# Altium integrated library TI_Logic_Flip-Flop,Latch,Register.IntLib: 2598 symbols (part 32 of 122)
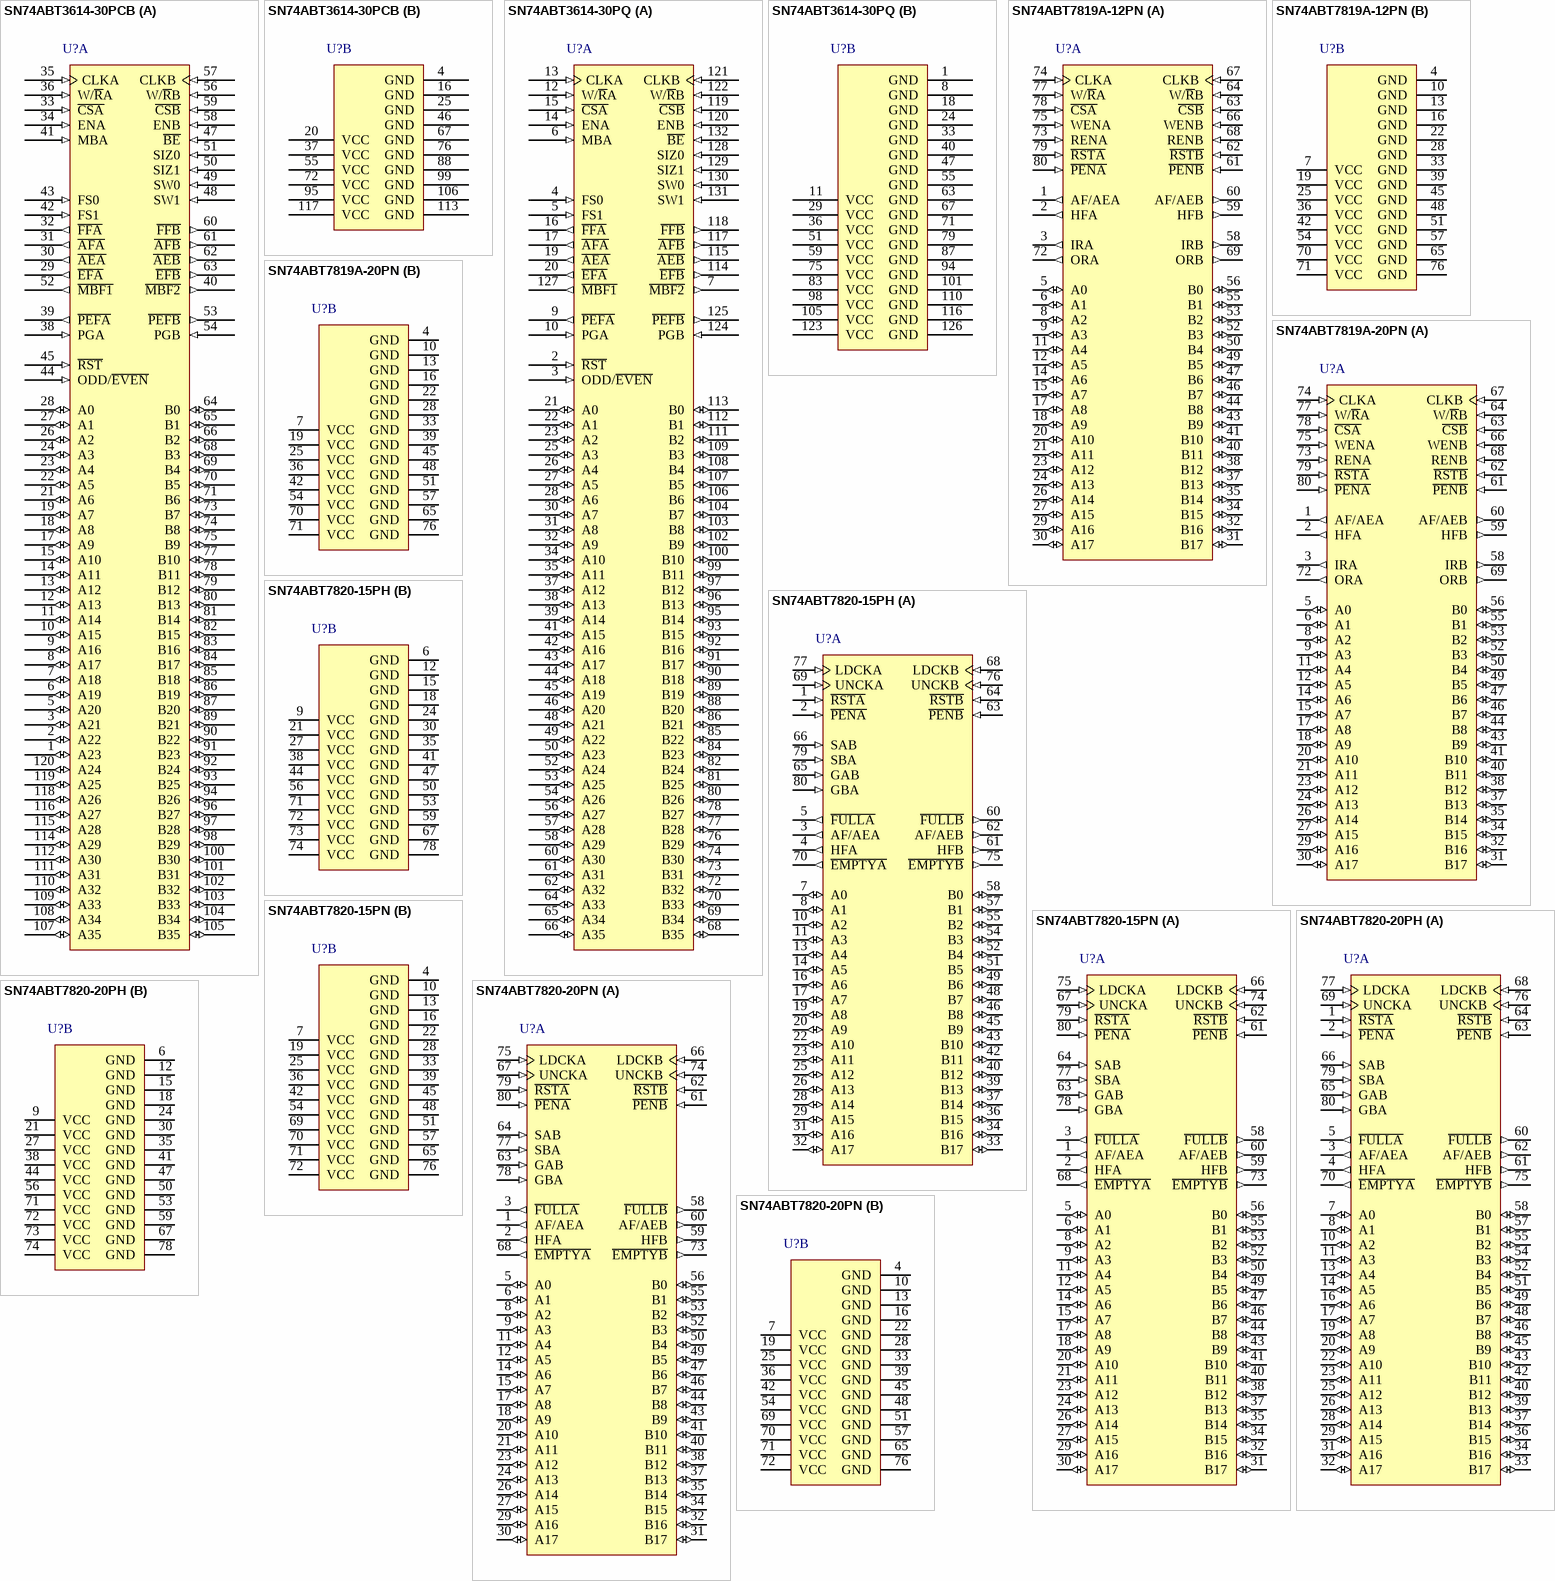
[diagram p170: symbols SN74ABT3614-30PCB to SN74ABT7820-20PN]

## SN74ABT3614-30PCB
designator U?
64 x 36 x 2 bidirectional synchronous FIFO memory, PCB0120A, JEDEC TRAY (5+1); Generic Part Number: SN74ABT3614; Manufacturer: Texas Instruments; PartNumber: SN74ABT3614-30PCB; Vcc range(V): 4.5 to 5.5; Fmax(MHz): 67; Voltage Nodes(V): 5; Sync/Async: S; Rating: Catalog; Output Drive(mA): -0.5; DatasheetVersion: SCBS126H; PackageReference: PCB0120A; Depth: 64; Width: 36; Code_JEDEC: MS-026; ComponentLink1Description: Manufacturer URL; ComponentLink1URL: http://www.ti.com/; ComponentLink2Description: Datasheet; ComponentLink2URL: http://www.ti.com/lit/ds/symlink/sn74abt3614.pdf; ComponentLink3Description: Package Specification; ComponentLink3URL: http://www.ti.com/lit/ml/mhtq004a/mhtq004a.pdf
footprint PCB0120A_N (QFP, 120-Leads, Body 14x14mm, Pitch 0.4mm, IPC Medium Density)
footprint PCB0120A_M (QFP, 120-Leads, Body 14x14mm, Pitch 0.4mm, IPC Low Density)
footprint PCB0120A_L (QFP, 120-Leads, Body 14x14mm, Pitch 0.4mm, IPC High Density)
part A pins: 1 A23 (io) "Port-A data. The 36-bit bidirectional data port for side A.", 2 A22 (io) "Port-A data. The 36-bit bidirectional data port for side A.", 3 A21 (io) "Port-A data. The 36-bit bidirectional data port for side A.", 5 A20 (io) "Port-A data. The 36-bit bidirectional data port for side A.", 6 A19 (io) "Port-A data. The 36-bit bidirectional data port for side A.", 7 A18 (io) "Port-A data. The 36-bit bidirectional data port for side A.", 8 A17 (io) "Port-A data. The 36-bit bidirectional data port for side A.", 9 A16 (io) "Port-A data. The 36-bit bidirectional data port for side A.", 10 A15 (io) "Port-A data. The 36-bit bidirectional data port for side A.", 11 A14 (io) "Port-A data. The 36-bit bidirectional data port for side A.", 12 A13 (io) "Port-A data. The 36-bit bidirectional data port for side A.", 13 A12 (io) "Port-A data. The 36-bit bidirectional data port for side A.", 14 A11 (io) "Port-A data. The 36-bit bidirectional data port for side A.", 15 A10 (io) "Port-A data. The 36-bit bidirectional data port for side A.", 17 A9 (io) "Port-A data. The 36-bit bidirectional data port for side A.", 18 A8 (io) "Port-A data. The 36-bit bidirectional data port for side A.", 19 A7 (io) "Port-A data. The 36-bit bidirectional data port for side A.", 21 A6 (io) "Port-A data. The 36-bit bidirectional data port for side A.", 22 A5 (io) "Port-A data. The 36-bit bidirectional data port for side A.", 23 A4 (io) "Port-A data. The 36-bit bidirectional data port for side A.", 24 A3 (io) "Port-A data. The 36-bit bidirectional data port for side A.", 26 A2 (io) "Port-A data. The 36-bit bidirectional data port for side A.", 27 A1 (io) "Port-A data. The 36-bit bidirectional data port for side A.", 28 A0 (io) "Port-A data. The 36-bit bidirectional data port for side A.", 29 ~{EFA} (out) "Port-A empty flag. E\F\A\ is synchronized to the low-to-high transition of CLKA. When E\F\A\ is low, FIFO2 is empty and reads from its memory are disabled. Data can be read from FIFO2 to the output register when E\F\A\ is (See Datasheet)", 30 ~{AEA} (out) "Port-A almost-empty flag. Programmable flag synchronized to CLKA. A\E\A\ is low when the number of 36-bit words in FIFO2 is less than or equal to the value in offset register X.", 31 ~{AFA} (out) "Port-A almost-full flag. Programmable flag synchronized to CLKA. A\F\A\ is low when the number of 36-bit empty locations in FIFO1 is less than or equal to the value in offset register X.", 32 ~{FFA} (out) "Port-A full flag. F\F\A\ is synchronized to the low-to-high transition of CLKA. When F\F\A\ is low, FIFO1 is full and writes to its memory are disabled. F\F\A\ is forced low when the device is reset and is set high by the (See Datasheet)", 33 ~{CSA} (in) "Port-A chip select. C\S\A\ must be low to enable a low-to-high transition of CLKA to read or write data on port A. The A0-A35 outputs are in the high-impedance state when C\S\A\ is high.", 34 ENA (in) "Port-A enable. ENA must be high to enable a low-to-high transition of CLKA to read or write data on port A.", 35 CLKA (in) "Port-A clock. CLKA is a continuous clock that synchronizes all data transfers through port A and can be asynchronous or coincident to CLKB. E\F\A\, F\F\A\, A\F\A\, and A\E\A\ are synchronized to the low-to-high transition of (See Datasheet)", 36 W/~{R}A (in) "Port-A write/read select. W/R\A high selects a write operation and a low selects a read operation on port A for a low-to-high transition of CLKA. The A0-A35 outputs are in the high-impedance state when W/R\A is high.", 38 PGA (in) "Port-A parity generation. Parity is generated for data reads from port A when PGA is high. The type of parity generated is selected by the state of the ODD/E\V\E\N\ input. Bytes are organized as A0-A8, A9-A17, A18-A26, and (See Datasheet)", 39 ~{PEFA} (out) "Port-A parity-error flag. When any byte applied to terminals A0-A35 fails parity, P\E\F\A\ is low. Bytes are organized as A0-A8, A9-A17, A18-A26, and A27-A35, with the most-significant bit of each byte serving as the parity (See Datasheet)", 40 ~{MBF2} (out) "Mail2 register flag. M\B\F\2\ is set low by the low-to-high transition of CLKB that writes data to the mail2 register. Writes to the mail2 register are inhibited while M\B\F\2\ is low. M\B\F\2\ is set high by a low-to-high (See Datasheet)", 41 MBA (in) "Port-A mailbox select. A high level on MBA chooses a mailbox register for a port-A read or write operation. When the A0-A35 outputs are active, a high level on MBA selects data from the mail2 register for output and a low (See Datasheet)", 42 FS1 (in) "Flag offset selects. The low-to-high transition of R\S\T\ latches the values of FS0 and FS1, which selects one of four preset values for the A\E\ flag and A\F\ flag offset.", 43 FS0 (in) "Flag offset selects. The low-to-high transition of R\S\T\ latches the values of FS0 and FS1, which selects one of four preset values for the A\E\ flag and A\F\ flag offset.", 44 ODD/~{EVEN} (in) "Odd/even parity select. Odd parity is checked on each port when ODD/E\V\E\N\ is high and even parity is checked when ODD/E\V\E\N\ is low. ODD/E\V\E\N\ also selects the type of parity generated for each port if parity (See Datasheet)", 45 ~{RST} (in) "Reset. To reset the device, four low-to-high transitions of CLKA and four low-to-high transitions of CLKB must occur while R\S\T\ is low. This sets the A\F\A\, A\F\B\, M\B\F\1\, and M\B\F\2\ flags high and the E\F\A\, (See Datasheet)", 47 ~{BE} (in) "Big-endian select. Selects the bytes on port B used during byte or word data transfer. A low on B\E\ selects the most-significant bytes on B0-B35 for use, and a high selects the least-significant bytes.", 48 SW1 (in) "Port-B byte-swap selects. At the beginning of each long word transfer, one of four modes of byte-order swapping is selected by SW0 and SW1. The four modes are no swap, byte swap, word swap, and byte-word swap. Byte-order (See Datasheet)", 49 SW0 (in) "Port-B byte-swap selects. At the beginning of each long word transfer, one of four modes of byte-order swapping is selected by SW0 and SW1. The four modes are no swap, byte swap, word swap, and byte-word swap. Byte-order (See Datasheet)", 50 SIZ1 (in) "Port-B bus-size selects. The low-to-high transition of CLKB latches the states of SIZ0, SIZ1, and B\E\, and the following low-to-high transition of CLKB implements the latched states as a port-B bus size. Port-B bus sizes (See Datasheet)", 51 SIZ0 (in) "Port-B bus-size selects. The low-to-high transition of CLKB latches the states of SIZ0, SIZ1, and B\E\, and the following low-to-high transition of CLKB implements the latched states as a port-B bus size. Port-B bus sizes (See Datasheet)", 52 ~{MBF1} (out) "Mail1 register flag. M\B\F\1\ is set low by the low-to-high transition of CLKA that writes data to the mail1 register. Writes to the mail1 register are inhibited while M\B\F\1\ is low. M\B\F\1\ is set high by a low-to-high (See Datasheet)", 53 ~{PEFB} (out) "Port-B parity-error flag. When any valid byte applied to terminals B0-B35 fails parity, P\E\F\B\ is low. Bytes are organized as B0-B8, B9-B17, B18-B26, and B27-B35, with the most-significant bit of each byte serving as the (See Datasheet)", 54 PGB (in) "Port-B parity generation. Parity is generated for data reads from port B when PGB is high. The type of parity generated is selected by the state of the ODD/E\V\E\N\ input. Bytes are organized as B0-B8, B9-B17, B18-B26, and (See Datasheet)", 56 W/~{R}B (in) "Port-B write/read select. W/R\B high selects a write operation and a low selects a read operation on port B for a low-to-high transition of CLKB. The B0-B35 outputs are in the high-impedance state when W/R\B is high.", 57 CLKB (in) "Port-B clock. CLKB is a continuous clock that synchronizes all data transfers through port B and can be asynchronous or coincident to CLKA. Port-B byte swapping and data-port-sizing operations are also synchronous to the (See Datasheet)", 58 ENB (in) "Port-B enable. ENB must be high to enable a low-to-high transition of CLKB to read or write data on port B.", 59 ~{CSB} (in) "Port-B chip select. C\S\B\ must be low to enable a low-to-high transition of CLKB to read or write data on port B. The B0-B35 outputs are in the high-impedance state when C\S\B\ is high.", 60 ~{FFB} (out) "Port-B full flag. F\F\B\ is synchronized to the low-to-high transition of CLKB. When F\F\B\ is low, FIFO2 is full and writes to its memory are disabled. F\F\B\ is forced low when the device is reset and is set high by the (See Datasheet)", 61 ~{AFB} (out) "Port-B almost-full flag. Programmable flag synchronized to CLKB. A\F\B\ is low when the number of 36-bit empty locations in FIFO2 is less than or equal to the value in offset register X.", 62 ~{AEB} (out) "Port-B almost-empty flag. Programmable flag synchronized to CLKB. A\E\B\ is low when the number of 36-bit words in FIFO1 is less than or equal to the value in offset register X.", 63 ~{EFB} (out) "Port-B empty flag. E\F\B\ is synchronized to the low-to-high transition of CLKB. When E\F\B\ is low, FIFO1 is empty and reads from its memory are disabled. Data can be read from FIFO1 to the output register when E\F\B\ is (See Datasheet)", 64 B0 (io) "Port-B data. The 36-bit bidirectional data port for side B.", 65 B1 (io) "Port-B data. The 36-bit bidirectional data port for side B.", 66 B2 (io) "Port-B data. The 36-bit bidirectional data port for side B.", 68 B3 (io) "Port-B data. The 36-bit bidirectional data port for side B.", 69 B4 (io) "Port-B data. The 36-bit bidirectional data port for side B.", 70 B5 (io) "Port-B data. The 36-bit bidirectional data port for side B.", 71 B6 (io) "Port-B data. The 36-bit bidirectional data port for side B.", 73 B7 (io) "Port-B data. The 36-bit bidirectional data port for side B.", 74 B8 (io) "Port-B data. The 36-bit bidirectional data port for side B.", 75 B9 (io) "Port-B data. The 36-bit bidirectional data port for side B.", 77 B10 (io) "Port-B data. The 36-bit bidirectional data port for side B.", 78 B11 (io) "Port-B data. The 36-bit bidirectional data port for side B.", 79 B12 (io) "Port-B data. The 36-bit bidirectional data port for side B.", 80 B13 (io) "Port-B data. The 36-bit bidirectional data port for side B.", 81 B14 (io) "Port-B data. The 36-bit bidirectional data port for side B.", 82 B15 (io) "Port-B data. The 36-bit bidirectional data port for side B.", 83 B16 (io) "Port-B data. The 36-bit bidirectional data port for side B.", 84 B17 (io) "Port-B data. The 36-bit bidirectional data port for side B.", 85 B18 (io) "Port-B data. The 36-bit bidirectional data port for side B.", 86 B19 (io) "Port-B data. The 36-bit bidirectional data port for side B.", 87 B20 (io) "Port-B data. The 36-bit bidirectional data port for side B.", 89 B21 (io) "Port-B data. The 36-bit bidirectional data port for side B.", 90 B22 (io) "Port-B data. The 36-bit bidirectional data port for side B.", 91 B23 (io) "Port-B data. The 36-bit bidirectional data port for side B.", 92 B24 (io) "Port-B data. The 36-bit bidirectional data port for side B.", 93 B25 (io) "Port-B data. The 36-bit bidirectional data port for side B.", 94 B26 (io) "Port-B data. The 36-bit bidirectional data port for side B.", 96 B27 (io) "Port-B data. The 36-bit bidirectional data port for side B.", 97 B28 (io) "Port-B data. The 36-bit bidirectional data port for side B.", 98 B29 (io) "Port-B data. The 36-bit bidirectional data port for side B.", 100 B30 (io) "Port-B data. The 36-bit bidirectional data port for side B.", 101 B31 (io) "Port-B data. The 36-bit bidirectional data port for side B.", 102 B32 (io) "Port-B data. The 36-bit bidirectional data port for side B.", 103 B33 (io) "Port-B data. The 36-bit bidirectional data port for side B.", 104 B34 (io) "Port-B data. The 36-bit bidirectional data port for side B.", 105 B35 (io) "Port-B data. The 36-bit bidirectional data port for side B.", 107 A35 (io) "Port-A data. The 36-bit bidirectional data port for side A.", 108 A34 (io) "Port-A data. The 36-bit bidirectional data port for side A.", 109 A33 (io) "Port-A data. The 36-bit bidirectional data port for side A.", 110 A32 (io) "Port-A data. The 36-bit bidirectional data port for side A.", 111 A31 (io) "Port-A data. The 36-bit bidirectional data port for side A.", 112 A30 (io) "Port-A data. The 36-bit bidirectional data port for side A.", 114 A29 (io) "Port-A data. The 36-bit bidirectional data port for side A.", 115 A28 (io) "Port-A data. The 36-bit bidirectional data port for side A.", 116 A27 (io) "Port-A data. The 36-bit bidirectional data port for side A.", 118 A26 (io) "Port-A data. The 36-bit bidirectional data port for side A.", 119 A25 (io) "Port-A data. The 36-bit bidirectional data port for side A.", 120 A24 (io) "Port-A data. The 36-bit bidirectional data port for side A."
part B pins: 4 GND (power), 16 GND (power), 20 VCC (power), 25 GND (power), 37 VCC (power), 46 GND (power), 55 VCC (power), 67 GND (power), 72 VCC (power), 76 GND (power), 88 GND (power), 95 VCC (power), 99 GND (power), 106 GND (power), 113 GND (power), 117 VCC (power)

## SN74ABT3614-30PQ
designator U?
64 x 36 x 2 bidirectional synchronous FIFO memory, PQ0132A, JEDEC TRAY (10+1); Generic Part Number: SN74ABT3614; Manufacturer: Texas Instruments; PartNumber: SN74ABT3614-30PQ; Vcc range(V): 4.5 to 5.5; Fmax(MHz): 67; Voltage Nodes(V): 5; Sync/Async: S; Rating: Catalog; Output Drive(mA): -0.5; DatasheetVersion: SCBS126H; PackageReference: PQ0132A; Depth: 64; Width: 36; Code_JEDEC: MO-069; ComponentLink1Description: Manufacturer URL; ComponentLink1URL: http://www.ti.com/; ComponentLink2Description: Datasheet; ComponentLink2URL: http://www.ti.com/lit/ds/symlink/sn74abt3614.pdf; ComponentLink3Description: Package Specification; ComponentLink3URL: http://www.ti.com/lit/ml/mbqf001a/mbqf001a.pdf
footprint PQ0132A_N (QFP, 132-Leads, Body 24.1x24.1mm, Pitch 0.635mm, IPC Medium Density)
footprint PQ0132A_M (QFP, 132-Leads, Body 24.1x24.1mm, Pitch 0.635mm, IPC Low Density)
footprint PQ0132A_L (QFP, 132-Leads, Body 24.1x24.1mm, Pitch 0.635mm, IPC High Density)
part A pins: 2 ~{RST} (in) "Reset. To reset the device, four low-to-high transitions of CLKA and four low-to-high transitions of CLKB must occur while R\S\T\ is low. This sets the A\F\A\, A\F\B\, M\B\F\1\, and M\B\F\2\ flags high and the E\F\A\, (See Datasheet)", 3 ODD/~{EVEN} (in) "Odd/even parity select. Odd parity is checked on each port when ODD/E\V\E\N\ is high and even parity is checked when ODD/E\V\E\N\ is low. ODD/E\V\E\N\ also selects the type of parity generated for each port if parity (See Datasheet)", 4 FS0 (in) "Flag offset selects. The low-to-high transition of R\S\T\ latches the values of FS0 and FS1, which selects one of four preset values for the A\E\ flag and A\F\ flag offset.", 5 FS1 (in) "Flag offset selects. The low-to-high transition of R\S\T\ latches the values of FS0 and FS1, which selects one of four preset values for the A\E\ flag and A\F\ flag offset.", 6 MBA (in) "Port-A mailbox select. A high level on MBA chooses a mailbox register for a port-A read or write operation. When the A0-A35 outputs are active, a high level on MBA selects data from the mail2 register for output and a low (See Datasheet)", 7 ~{MBF2} (out) "Mail2 register flag. M\B\F\2\ is set low by the low-to-high transition of CLKB that writes data to the mail2 register. Writes to the mail2 register are inhibited while M\B\F\2\ is low. M\B\F\2\ is set high by a low-to-high (See Datasheet)", 9 ~{PEFA} (out) "Port-A parity-error flag. When any byte applied to terminals A0-A35 fails parity, P\E\F\A\ is low. Bytes are organized as A0-A8, A9-A17, A18-A26, and A27-A35, with the most-significant bit of each byte serving as the parity (See Datasheet)", 10 PGA (in) "Port-A parity generation. Parity is generated for data reads from port A when PGA is high. The type of parity generated is selected by the state of the ODD/E\V\E\N\ input. Bytes are organized as A0-A8, A9-A17, A18-A26, and (See Datasheet)", 12 W/~{R}A (in) "Port-A write/read select. W/R\A high selects a write operation and a low selects a read operation on port A for a low-to-high transition of CLKA. The A0-A35 outputs are in the high-impedance state when W/R\A is high.", 13 CLKA (in) "Port-A clock. CLKA is a continuous clock that synchronizes all data transfers through port A and can be asynchronous or coincident to CLKB. E\F\A\, F\F\A\, A\F\A\, and A\E\A\ are synchronized to the low-to-high transition of (See Datasheet)", 14 ENA (in) "Port-A enable. ENA must be high to enable a low-to-high transition of CLKA to read or write data on port A.", 15 ~{CSA} (in) "Port-A chip select. C\S\A\ must be low to enable a low-to-high transition of CLKA to read or write data on port A. The A0-A35 outputs are in the high-impedance state when C\S\A\ is high.", 16 ~{FFA} (out) "Port-A full flag. F\F\A\ is synchronized to the low-to-high transition of CLKA. When F\F\A\ is low, FIFO1 is full and writes to its memory are disabled. F\F\A\ is forced low when the device is reset and is set high by the (See Datasheet)", 17 ~{AFA} (out) "Port-A almost-full flag. Programmable flag synchronized to CLKA. A\F\A\ is low when the number of 36-bit empty locations in FIFO1 is less than or equal to the value in offset register X.", 19 ~{AEA} (out) "Port-A almost-empty flag. Programmable flag synchronized to CLKA. A\E\A\ is low when the number of 36-bit words in FIFO2 is less than or equal to the value in offset register X.", 20 ~{EFA} (out) "Port-A empty flag. E\F\A\ is synchronized to the low-to-high transition of CLKA. When E\F\A\ is low, FIFO2 is empty and reads from its memory are disabled. Data can be read from FIFO2 to the output register when E\F\A\ is (See Datasheet)", 21 A0 (io) "Port-A data. The 36-bit bidirectional data port for side A.", 22 A1 (io) "Port-A data. The 36-bit bidirectional data port for side A.", 23 A2 (io) "Port-A data. The 36-bit bidirectional data port for side A.", 25 A3 (io) "Port-A data. The 36-bit bidirectional data port for side A.", 26 A4 (io) "Port-A data. The 36-bit bidirectional data port for side A.", 27 A5 (io) "Port-A data. The 36-bit bidirectional data port for side A.", 28 A6 (io) "Port-A data. The 36-bit bidirectional data port for side A.", 30 A7 (io) "Port-A data. The 36-bit bidirectional data port for side A.", 31 A8 (io) "Port-A data. The 36-bit bidirectional data port for side A.", 32 A9 (io) "Port-A data. The 36-bit bidirectional data port for side A.", 34 A10 (io) "Port-A data. The 36-bit bidirectional data port for side A.", 35 A11 (io) "Port-A data. The 36-bit bidirectional data port for side A.", 37 A12 (io) "Port-A data. The 36-bit bidirectional data port for side A.", 38 A13 (io) "Port-A data. The 36-bit bidirectional data port for side A.", 39 A14 (io) "Port-A data. The 36-bit bidirectional data port for side A.", 41 A15 (io) "Port-A data. The 36-bit bidirectional data port for side A.", 42 A16 (io) "Port-A data. The 36-bit bidirectional data port for side A.", 43 A17 (io) "Port-A data. The 36-bit bidirectional data port for side A.", 44 A18 (io) "Port-A data. The 36-bit bidirectional data port for side A.", 45 A19 (io) "Port-A data. The 36-bit bidirectional data port for side A.", 46 A20 (io) "Port-A data. The 36-bit bidirectional data port for side A.", 48 A21 (io) "Port-A data. The 36-bit bidirectional data port for side A.", 49 A22 (io) "Port-A data. The 36-bit bidirectional data port for side A.", 50 A23 (io) "Port-A data. The 36-bit bidirectional data port for side A.", 52 A24 (io) "Port-A data. The 36-bit bidirectional data port for side A.", 53 A25 (io) "Port-A data. The 36-bit bidirectional data port for side A.", 54 A26 (io) "Port-A data. The 36-bit bidirectional data port for side A.", 56 A27 (io) "Port-A data. The 36-bit bidirectional data port for side A.", 57 A28 (io) "Port-A data. The 36-bit bidirectional data port for side A.", 58 A29 (io) "Port-A data. The 36-bit bidirectional data port for side A.", 60 A30 (io) "Port-A data. The 36-bit bidirectional data port for side A.", 61 A31 (io) "Port-A data. The 36-bit bidirectional data port for side A.", 62 A32 (io) "Port-A data. The 36-bit bidirectional data port for side A.", 64 A33 (io) "Port-A data. The 36-bit bidirectional data port for side A.", 65 A34 (io) "Port-A data. The 36-bit bidirectional data port for side A.", 66 A35 (io) "Port-A data. The 36-bit bidirectional data port for side A.", 68 B35 (io) "Port-B data. The 36-bit bidirectional data port for side B.", 69 B34 (io) "Port-B data. The 36-bit bidirectional data port for side B.", 70 B33 (io) "Port-B data. The 36-bit bidirectional data port for side B.", 72 B32 (io) "Port-B data. The 36-bit bidirectional data port for side B.", 73 B31 (io) "Port-B data. The 36-bit bidirectional data port for side B.", 74 B30 (io) "Port-B data. The 36-bit bidirectional data port for side B.", 76 B29 (io) "Port-B data. The 36-bit bidirectional data port for side B.", 77 B28 (io) "Port-B data. The 36-bit bidirectional data port for side B.", 78 B27 (io) "Port-B data. The 36-bit bidirectional data port for side B.", 80 B26 (io) "Port-B data. The 36-bit bidirectional data port for side B.", 81 B25 (io) "Port-B data. The 36-bit bidirectional data port for side B.", 82 B24 (io) "Port-B data. The 36-bit bidirectional data port for side B.", 84 B23 (io) "Port-B data. The 36-bit bidirectional data port for side B.", 85 B22 (io) "Port-B data. The 36-bit bidirectional data port for side B.", 86 B21 (io) "Port-B data. The 36-bit bidirectional data port for side B.", 88 B20 (io) "Port-B data. The 36-bit bidirectional data port for side B.", 89 B19 (io) "Port-B data. The 36-bit bidirectional data port for side B.", 90 B18 (io) "Port-B data. The 36-bit bidirectional data port for side B.", 91 B17 (io) "Port-B data. The 36-bit bidirectional data port for side B.", 92 B16 (io) "Port-B data. The 36-bit bidirectional data port for side B.", 93 B15 (io) "Port-B data. The 36-bit bidirectional data port for side B.", 95 B14 (io) "Port-B data. The 36-bit bidirectional data port for side B.", 96 B13 (io) "Port-B data. The 36-bit bidirectional data port for side B.", 97 B12 (io) "Port-B data. The 36-bit bidirectional data port for side B.", 99 B11 (io) "Port-B data. The 36-bit bidirectional data port for side B.", 100 B10 (io) "Port-B data. The 36-bit bidirectional data port for side B.", 102 B9 (io) "Port-B data. The 36-bit bidirectional data port for side B.", 103 B8 (io) "Port-B data. The 36-bit bidirectional data port for side B.", 104 B7 (io) "Port-B data. The 36-bit bidirectional data port for side B.", 106 B6 (io) "Port-B data. The 36-bit bidirectional data port for side B.", 107 B5 (io) "Port-B data. The 36-bit bidirectional data port for side B.", 108 B4 (io) "Port-B data. The 36-bit bidirectional data port for side B.", 109 B3 (io) "Port-B data. The 36-bit bidirectional data port for side B.", 111 B2 (io) "Port-B data. The 36-bit bidirectional data port for side B.", 112 B1 (io) "Port-B data. The 36-bit bidirectional data port for side B.", 113 B0 (io) "Port-B data. The 36-bit bidirectional data port for side B.", 114 ~{EFB} (out) "Port-B empty flag. E\F\B\ is synchronized to the low-to-high transition of CLKB. When E\F\B\ is low, FIFO1 is empty and reads from its memory are disabled. Data can be read from FIFO1 to the output register when E\F\B\ is (See Datasheet)", 115 ~{AEB} (out) "Port-B almost-empty flag. Programmable flag synchronized to CLKB. A\E\B\ is low when the number of 36-bit words in FIFO1 is less than or equal to the value in offset register X.", 117 ~{AFB} (out) "Port-B almost-full flag. Programmable flag synchronized to CLKB. A\F\B\ is low when the number of 36-bit empty locations in FIFO2 is less than or equal to the value in offset register X.", 118 ~{FFB} (out) "Port-B full flag. F\F\B\ is synchronized to the low-to-high transition of CLKB. When F\F\B\ is low, FIFO2 is full and writes to its memory are disabled. F\F\B\ is forced low when the device is reset and is set high by the (See Datasheet)", 119 ~{CSB} (in) "Port-B chip select. C\S\B\ must be low to enable a low-to-high transition of CLKB to read or write data on port B. The B0-B35 outputs are in the high-impedance state when C\S\B\ is high.", 120 ENB (in) "Port-B enable. ENB must be high to enable a low-to-high transition of CLKB to read or write data on port B.", 121 CLKB (in) "Port-B clock. CLKB is a continuous clock that synchronizes all data transfers through port B and can be asynchronous or coincident to CLKA. Port-B byte swapping and data-port-sizing operations are also synchronous to the (See Datasheet)", 122 W/~{R}B (in) "Port-B write/read select. W/R\B high selects a write operation and a low selects a read operation on port B for a low-to-high transition of CLKB. The B0-B35 outputs are in the high-impedance state when W/R\B is high.", 124 PGB (in) "Port-B parity generation. Parity is generated for data reads from port B when PGB is high. The type of parity generated is selected by the state of the ODD/E\V\E\N\ input. Bytes are organized as B0-B8, B9-B17, B18-B26, and (See Datasheet)", 125 ~{PEFB} (out) "Port-B parity-error flag. When any valid byte applied to terminals B0-B35 fails parity, P\E\F\B\ is low. Bytes are organized as B0-B8, B9-B17, B18-B26, and B27-B35, with the most-significant bit of each byte serving as the (See Datasheet)", 127 ~{MBF1} (out) "Mail1 register flag. M\B\F\1\ is set low by the low-to-high transition of CLKA that writes data to the mail1 register. Writes to the mail1 register are inhibited while M\B\F\1\ is low. M\B\F\1\ is set high by a low-to-high (See Datasheet)", 128 SIZ0 (in) "Port-B bus-size selects. The low-to-high transition of CLKB latches the states of SIZ0, SIZ1, and B\E\, and the following low-to-high transition of CLKB implements the latched states as a port-B bus size. Port-B bus sizes (See Datasheet)", 129 SIZ1 (in) "Port-B bus-size selects. The low-to-high transition of CLKB latches the states of SIZ0, SIZ1, and B\E\, and the following low-to-high transition of CLKB implements the latched states as a port-B bus size. Port-B bus sizes (See Datasheet)", 130 SW0 (in) "Port-B byte-swap selects. At the beginning of each long word transfer, one of four modes of byte-order swapping is selected by SW0 and SW1. The four modes are no swap, byte swap, word swap, and byte-word swap. Byte-order (See Datasheet)", 131 SW1 (in) "Port-B byte-swap selects. At the beginning of each long word transfer, one of four modes of byte-order swapping is selected by SW0 and SW1. The four modes are no swap, byte swap, word swap, and byte-word swap. Byte-order (See Datasheet)", 132 ~{BE} (in) "Big-endian select. Selects the bytes on port B used during byte or word data transfer. A low on B\E\ selects the most-significant bytes on B0-B35 for use, and a high selects the least-significant bytes."
part B pins: 1 GND (power), 8 GND (power), 11 VCC (power), 18 GND (power), 24 GND (power), 29 VCC (power), 33 GND (power), 36 VCC (power), 40 GND (power), 47 GND (power), 51 VCC (power), 55 GND (power), 59 VCC (power), 63 GND (power), 67 GND (power), 71 GND (power), 75 VCC (power), 79 GND (power), 83 VCC (power), 87 GND (power), 94 GND (power), 98 VCC (power), 101 GND (power), 105 VCC (power), 110 GND (power), 116 GND (power), 123 VCC (power), 126 GND (power)

## SN74ABT7819A-12PN
designator U?
512 x 18 x 2 Clocked Bidirectional First-In, First-Out Memory, PN0080A, JEDEC TRAY (10+1); Generic Part Number: SN74ABT7819A; Manufacturer: Texas Instruments; PartNumber: SN74ABT7819A-12PN; Vcc range(V): 4.5 to 5.5; Fmax(MHz): 80; Voltage Nodes(V): 5; Sync/Async: S; Rating: Catalog; Output Drive(mA): -0.5; Flags Empty: YES; DatasheetVersion: SCBS756; PackageReference: PN0080A; Depth: 512; Width: 18; Flags Full: YES; Flags Half: YES; Code_JEDEC: MS-026; ComponentLink1Description: Manufacturer URL; ComponentLink1URL: http://www.ti.com/; ComponentLink2Description: Datasheet; ComponentLink2URL: http://www.ti.com/lit/ds/symlink/sn74abt7819a.pdf; ComponentLink3Description: Package Specification; ComponentLink3URL: http://www.ti.com/lit/ml/mtqf010a/mtqf010a.pdf
footprint PN0080A_N (QFP, 80-Leads, Body 12x12mm, Pitch 0.5mm, IPC Medium Density)
footprint PN0080A_M (QFP, 80-Leads, Body 12x12mm, Pitch 0.5mm, IPC Low Density)
footprint PN0080A_L (QFP, 80-Leads, Body 12x12mm, Pitch 0.5mm, IPC High Density)
part A pins: 1 AF/AEA (out) "FIFOA-B almost-full/almost-empty flag. Depth offsets can be programmed for AF/AEA or the default value of 128 can be used for both the almost-empty offset (X) and the almost-full offset (Y). AF/AEA is high when X or fewer (See Datasheet)", 2 HFA (out) "FIFOA-B half-full flag. HFA is high when FIFOA-B contains 256 or more words and is low when FIFOA-B contains 255 or fewer words. HFA is set low after FIFOA-B is reset.", 3 IRA (out) "Port-A input-ready flag. IRA is synchronized to the low-to-high transition of CLKA. When IRA is low, FIFOA-B is full and writes to its array are disabled. IRA is set low during a FIFOA-B reset and is set high on the second (See Datasheet)", 5 A0 (io) "Port-A data. The 18-bit bidirectional data port for side A.", 6 A1 (io) "Port-A data. The 18-bit bidirectional data port for side A.", 8 A2 (io) "Port-A data. The 18-bit bidirectional data port for side A.", 9 A3 (io) "Port-A data. The 18-bit bidirectional data port for side A.", 11 A4 (io) "Port-A data. The 18-bit bidirectional data port for side A.", 12 A5 (io) "Port-A data. The 18-bit bidirectional data port for side A.", 14 A6 (io) "Port-A data. The 18-bit bidirectional data port for side A.", 15 A7 (io) "Port-A data. The 18-bit bidirectional data port for side A.", 17 A8 (io) "Port-A data. The 18-bit bidirectional data port for side A.", 18 A9 (io) "Port-A data. The 18-bit bidirectional data port for side A.", 20 A10 (io) "Port-A data. The 18-bit bidirectional data port for side A.", 21 A11 (io) "Port-A data. The 18-bit bidirectional data port for side A.", 23 A12 (io) "Port-A data. The 18-bit bidirectional data port for side A.", 24 A13 (io) "Port-A data. The 18-bit bidirectional data port for side A.", 26 A14 (io) "Port-A data. The 18-bit bidirectional data port for side A.", 27 A15 (io) "Port-A data. The 18-bit bidirectional data port for side A.", 29 A16 (io) "Port-A data. The 18-bit bidirectional data port for side A.", 30 A17 (io) "Port-A data. The 18-bit bidirectional data port for side A.", 31 B17 (io) "Port-B data. The 18-bit bidirectional data port for side B.", 32 B16 (io) "Port-B data. The 18-bit bidirectional data port for side B.", 34 B15 (io) "Port-B data. The 18-bit bidirectional data port for side B.", 35 B14 (io) "Port-B data. The 18-bit bidirectional data port for side B.", 37 B13 (io) "Port-B data. The 18-bit bidirectional data port for side B.", 38 B12 (io) "Port-B data. The 18-bit bidirectional data port for side B.", 40 B11 (io) "Port-B data. The 18-bit bidirectional data port for side B.", 41 B10 (io) "Port-B data. The 18-bit bidirectional data port for side B.", 43 B9 (io) "Port-B data. The 18-bit bidirectional data port for side B.", 44 B8 (io) "Port-B data. The 18-bit bidirectional data port for side B.", 46 B7 (io) "Port-B data. The 18-bit bidirectional data port for side B.", 47 B6 (io) "Port-B data. The 18-bit bidirectional data port for side B.", 49 B5 (io) "Port-B data. The 18-bit bidirectional data port for side B.", 50 B4 (io) "Port-B data. The 18-bit bidirectional data port for side B.", 52 B3 (io) "Port-B data. The 18-bit bidirectional data port for side B.", 53 B2 (io) "Port-B data. The 18-bit bidirectional data port for side B.", 55 B1 (io) "Port-B data. The 18-bit bidirectional data port for side B.", 56 B0 (io) "Port-B data. The 18-bit bidirectional data port for side B.", 58 IRB (out) "Port-B input-ready flag. IRB is synchronized to the low-to-high transition of CLKB. When IRB is low, FIFOB-A is full and writes to its array are disabled. IRB is set low during a FIFOB-A reset and is set high on the second (See Datasheet)", 59 HFB (out) "FIFOB-A half-full flag. HFB is high when FIFOB-A contains 256 or more words and is low when FIFOB-A contains 255 or fewer words. HFB is set low after FIFOB-A is reset.", 60 AF/AEB (out) "FIFOB-A almost-full/almost-empty flag. Depth offsets can be programmed for AF/AEB or the default value of 128 can be used for both the almost-empty offset (X) and the almost-full offset (Y). AF/AEB is high when X or fewer (See Datasheet)", 61 ~{PENB} (in) "AF/AEB program enable. After FIFOB-A is reset and before a word is written to its array, the binary value on B0-B7 is latched as an AF/AEB offset when P\E\N\B\ is low and CLKB is high.", 62 ~{RSTB} (in) "FIFOB-A reset. To reset FIFOB-A, four low-to-high transitions of CLKA and four low-to-high transitions of CLKB must occur while R\S\T\B\ is low. This sets HFB low, IRB low, ORA low, and AF/AEB high.", 63 ~{CSB} (in) "Port-B chip select. C\S\B\ must be low to enable a low-to-high transition of CLKB to either write data from B0-B17 to FIFOB-A or read data from FIFOA-B to B0-B17. The B0-B17 outputs are in the high-impedance state when (See Datasheet)", 64 W/~{R}B (in) "Port-B write/r\e\a\d\ select. A high on W/R\B enables B0-B17 data to be written to FIFOB-A on a low-to-high transition of CLKB when WENB is high, C\S\B\ is low, and IRB is high. A low on W/R\B enables data to be read from (See Datasheet)", 66 WENB (in) "Port-B write enable. A high level on WENB enables data on B0-B17 to be written into FIFOB-A on the low-to-high transition of CLKB when W/R\B is high, C\S\B\ is low, and IRB is high.", 67 CLKB (in) "Port-B clock. CLKB is a continuous clock that synchronizes all data transfers through port B to its low-to-high transition and can be asynchronous or coincident to CLKA.", 68 RENB (in) "Port-B read enable. A high level on RENB enables data to be read from FIFOA-B on the low-to-high transition of CLKB when C\S\B\ is low, W/R\B is low, and ORB is high.", 69 ORB (out) "Port-B output-ready flag. ORB is synchronized to the low-to-high transition of CLKB. When ORB is low, FIFOA-B is empty and reads from its array are disabled. The last valid word remains on the FIFOA-B outputs when ORB is low.(See Datasheet)", 72 ORA (out) "Port-A output-ready flag. ORA is synchronized to the low-to-high transition of CLKA. When ORA is low, FIFOB-A is empty and reads from its array are disabled. The last valid word remains on the FIFOB-A outputs when ORA is low.(See Datasheet)", 73 RENA (in) "Port-A read enable. A high level on RENA enables data to be read from FIFOB-A on the low-to-high transition of CLKA when C\S\A\ is low, W/R\A is low, and ORA is high.", 74 CLKA (in) "Port-A clock. CLKA is a continuous clock that synchronizes all data transfers through port A to its low-to-high transition and can be asynchronous or coincident to CLKB.", 75 WENA (in) "Port-A write enable. A high level on WENA enables data on A0-A17 to be written into FIFOA-B on the low-to-high transition of CLKA when W/R\A is high, C\S\A\ is low, and IRA is high.", 77 W/~{R}A (in) "Port-A write/r\e\a\d\ select. A high on W/R\A enables A0-A17 data to be written to FIFOA-B on a low-to-high transition of CLKA when WENA is high, C\S\A\ is low, and IRA is high. A low on W/R\A enables data to be read from (See Datasheet)", 78 ~{CSA} (in) "Port-A chip select. C\S\A\ must be low to enable a low-to-high transition of CLKA to either write data from A0-A17 to FIFOA-B or read data from FIFOB-A to A0-A17. The A0-A17 outputs are in the high-impedance state when (See Datasheet)", 79 ~{RSTA} (in) "FIFOA-B reset. To reset FIFOA-B, four low-to-high transitions of CLKA and four low-to-high transitions of CLKB must occur while R\S\T\A\ is low. This sets HFA low, IRA low, ORB low, and AF/AEA high.", 80 ~{PENA} (in) "AF/AEA program enable. After FIFOA-B is reset and before a word is written to its array, the binary value on A0-A7 is latched as an AF/AEA offset when P\E\N\A\ is low and CLKA is high."
part B pins: 4 GND (power), 7 VCC (power), 10 GND (power), 13 GND (power), 16 GND (power), 19 VCC (power), 22 GND (power), 25 VCC (power), 28 GND (power), 33 GND (power), 36 VCC (power), 39 GND (power), 42 VCC (power), 45 GND (power), 48 GND (power), 51 GND (power), 54 VCC (power), 57 GND (power), 65 GND (power), 70 VCC (power), 71 VCC (power), 76 GND (power)

## SN74ABT7819A-20PN
designator U?
512 x 18 x 2 Clocked Bidirectional First-In, First-Out Memory, PN0080A, JEDEC TRAY (10+1); Generic Part Number: SN74ABT7819A; Manufacturer: Texas Instruments; PartNumber: SN74ABT7819A-20PN; Vcc range(V): 4.5 to 5.5; Fmax(MHz): 50; Voltage Nodes(V): 5; Sync/Async: S; Rating: Catalog; Output Drive(mA): -0.5; Flags Empty: YES; DatasheetVersion: SCBS756; PackageReference: PN0080A; Depth: 512; Width: 18; Flags Full: YES; Flags Half: YES; Code_JEDEC: MS-026; ComponentLink1Description: Manufacturer URL; ComponentLink1URL: http://www.ti.com/; ComponentLink2Description: Datasheet; ComponentLink2URL: http://www.ti.com/lit/ds/symlink/sn74abt7819a.pdf; ComponentLink3Description: Package Specification; ComponentLink3URL: http://www.ti.com/lit/ml/mtqf010a/mtqf010a.pdf
footprint PN0080A_N (QFP, 80-Leads, Body 12x12mm, Pitch 0.5mm, IPC Medium Density)
footprint PN0080A_M (QFP, 80-Leads, Body 12x12mm, Pitch 0.5mm, IPC Low Density)
footprint PN0080A_L (QFP, 80-Leads, Body 12x12mm, Pitch 0.5mm, IPC High Density)
part A pins: 1 AF/AEA (out) "FIFOA-B almost-full/almost-empty flag. Depth offsets can be programmed for AF/AEA or the default value of 128 can be used for both the almost-empty offset (X) and the almost-full offset (Y). AF/AEA is high when X or fewer (See Datasheet)", 2 HFA (out) "FIFOA-B half-full flag. HFA is high when FIFOA-B contains 256 or more words and is low when FIFOA-B contains 255 or fewer words. HFA is set low after FIFOA-B is reset.", 3 IRA (out) "Port-A input-ready flag. IRA is synchronized to the low-to-high transition of CLKA. When IRA is low, FIFOA-B is full and writes to its array are disabled. IRA is set low during a FIFOA-B reset and is set high on the second (See Datasheet)", 5 A0 (io) "Port-A data. The 18-bit bidirectional data port for side A.", 6 A1 (io) "Port-A data. The 18-bit bidirectional data port for side A.", 8 A2 (io) "Port-A data. The 18-bit bidirectional data port for side A.", 9 A3 (io) "Port-A data. The 18-bit bidirectional data port for side A.", 11 A4 (io) "Port-A data. The 18-bit bidirectional data port for side A.", 12 A5 (io) "Port-A data. The 18-bit bidirectional data port for side A.", 14 A6 (io) "Port-A data. The 18-bit bidirectional data port for side A.", 15 A7 (io) "Port-A data. The 18-bit bidirectional data port for side A.", 17 A8 (io) "Port-A data. The 18-bit bidirectional data port for side A.", 18 A9 (io) "Port-A data. The 18-bit bidirectional data port for side A.", 20 A10 (io) "Port-A data. The 18-bit bidirectional data port for side A.", 21 A11 (io) "Port-A data. The 18-bit bidirectional data port for side A.", 23 A12 (io) "Port-A data. The 18-bit bidirectional data port for side A.", 24 A13 (io) "Port-A data. The 18-bit bidirectional data port for side A.", 26 A14 (io) "Port-A data. The 18-bit bidirectional data port for side A.", 27 A15 (io) "Port-A data. The 18-bit bidirectional data port for side A.", 29 A16 (io) "Port-A data. The 18-bit bidirectional data port for side A.", 30 A17 (io) "Port-A data. The 18-bit bidirectional data port for side A.", 31 B17 (io) "Port-B data. The 18-bit bidirectional data port for side B.", 32 B16 (io) "Port-B data. The 18-bit bidirectional data port for side B.", 34 B15 (io) "Port-B data. The 18-bit bidirectional data port for side B.", 35 B14 (io) "Port-B data. The 18-bit bidirectional data port for side B.", 37 B13 (io) "Port-B data. The 18-bit bidirectional data port for side B.", 38 B12 (io) "Port-B data. The 18-bit bidirectional data port for side B.", 40 B11 (io) "Port-B data. The 18-bit bidirectional data port for side B.", 41 B10 (io) "Port-B data. The 18-bit bidirectional data port for side B.", 43 B9 (io) "Port-B data. The 18-bit bidirectional data port for side B.", 44 B8 (io) "Port-B data. The 18-bit bidirectional data port for side B.", 46 B7 (io) "Port-B data. The 18-bit bidirectional data port for side B.", 47 B6 (io) "Port-B data. The 18-bit bidirectional data port for side B.", 49 B5 (io) "Port-B data. The 18-bit bidirectional data port for side B.", 50 B4 (io) "Port-B data. The 18-bit bidirectional data port for side B.", 52 B3 (io) "Port-B data. The 18-bit bidirectional data port for side B.", 53 B2 (io) "Port-B data. The 18-bit bidirectional data port for side B.", 55 B1 (io) "Port-B data. The 18-bit bidirectional data port for side B.", 56 B0 (io) "Port-B data. The 18-bit bidirectional data port for side B.", 58 IRB (out) "Port-B input-ready flag. IRB is synchronized to the low-to-high transition of CLKB. When IRB is low, FIFOB-A is full and writes to its array are disabled. IRB is set low during a FIFOB-A reset and is set high on the second (See Datasheet)", 59 HFB (out) "FIFOB-A half-full flag. HFB is high when FIFOB-A contains 256 or more words and is low when FIFOB-A contains 255 or fewer words. HFB is set low after FIFOB-A is reset.", 60 AF/AEB (out) "FIFOB-A almost-full/almost-empty flag. Depth offsets can be programmed for AF/AEB or the default value of 128 can be used for both the almost-empty offset (X) and the almost-full offset (Y). AF/AEB is high when X or fewer (See Datasheet)", 61 ~{PENB} (in) "AF/AEB program enable. After FIFOB-A is reset and before a word is written to its array, the binary value on B0-B7 is latched as an AF/AEB offset when P\E\N\B\ is low and CLKB is high.", 62 ~{RSTB} (in) "FIFOB-A reset. To reset FIFOB-A, four low-to-high transitions of CLKA and four low-to-high transitions of CLKB must occur while R\S\T\B\ is low. This sets HFB low, IRB low, ORA low, and AF/AEB high.", 63 ~{CSB} (in) "Port-B chip select. C\S\B\ must be low to enable a low-to-high transition of CLKB to either write data from B0-B17 to FIFOB-A or read data from FIFOA-B to B0-B17. The B0-B17 outputs are in the high-impedance state when (See Datasheet)", 64 W/~{R}B (in) "Port-B write/r\e\a\d\ select. A high on W/R\B enables B0-B17 data to be written to FIFOB-A on a low-to-high transition of CLKB when WENB is high, C\S\B\ is low, and IRB is high. A low on W/R\B enables data to be read from (See Datasheet)", 66 WENB (in) "Port-B write enable. A high level on WENB enables data on B0-B17 to be written into FIFOB-A on the low-to-high transition of CLKB when W/R\B is high, C\S\B\ is low, and IRB is high.", 67 CLKB (in) "Port-B clock. CLKB is a continuous clock that synchronizes all data transfers through port B to its low-to-high transition and can be asynchronous or coincident to CLKA.", 68 RENB (in) "Port-B read enable. A high level on RENB enables data to be read from FIFOA-B on the low-to-high transition of CLKB when C\S\B\ is low, W/R\B is low, and ORB is high.", 69 ORB (out) "Port-B output-ready flag. ORB is synchronized to the low-to-high transition of CLKB. When ORB is low, FIFOA-B is empty and reads from its array are disabled. The last valid word remains on the FIFOA-B outputs when ORB is low.(See Datasheet)", 72 ORA (out) "Port-A output-ready flag. ORA is synchronized to the low-to-high transition of CLKA. When ORA is low, FIFOB-A is empty and reads from its array are disabled. The last valid word remains on the FIFOB-A outputs when ORA is low.(See Datasheet)", 73 RENA (in) "Port-A read enable. A high level on RENA enables data to be read from FIFOB-A on the low-to-high transition of CLKA when C\S\A\ is low, W/R\A is low, and ORA is high.", 74 CLKA (in) "Port-A clock. CLKA is a continuous clock that synchronizes all data transfers through port A to its low-to-high transition and can be asynchronous or coincident to CLKB.", 75 WENA (in) "Port-A write enable. A high level on WENA enables data on A0-A17 to be written into FIFOA-B on the low-to-high transition of CLKA when W/R\A is high, C\S\A\ is low, and IRA is high.", 77 W/~{R}A (in) "Port-A write/r\e\a\d\ select. A high on W/R\A enables A0-A17 data to be written to FIFOA-B on a low-to-high transition of CLKA when WENA is high, C\S\A\ is low, and IRA is high. A low on W/R\A enables data to be read from (See Datasheet)", 78 ~{CSA} (in) "Port-A chip select. C\S\A\ must be low to enable a low-to-high transition of CLKA to either write data from A0-A17 to FIFOA-B or read data from FIFOB-A to A0-A17. The A0-A17 outputs are in the high-impedance state when (See Datasheet)", 79 ~{RSTA} (in) "FIFOA-B reset. To reset FIFOA-B, four low-to-high transitions of CLKA and four low-to-high transitions of CLKB must occur while R\S\T\A\ is low. This sets HFA low, IRA low, ORB low, and AF/AEA high.", 80 ~{PENA} (in) "AF/AEA program enable. After FIFOA-B is reset and before a word is written to its array, the binary value on A0-A7 is latched as an AF/AEA offset when P\E\N\A\ is low and CLKA is high."
part B pins: 4 GND (power), 7 VCC (power), 10 GND (power), 13 GND (power), 16 GND (power), 19 VCC (power), 22 GND (power), 25 VCC (power), 28 GND (power), 33 GND (power), 36 VCC (power), 39 GND (power), 42 VCC (power), 45 GND (power), 48 GND (power), 51 GND (power), 54 VCC (power), 57 GND (power), 65 GND (power), 70 VCC (power), 71 VCC (power), 76 GND (power)